# Altium schematic symbol library B5B-ZR(LF)(SN).SchLib: 1 symbol
Pins are listed as number, name and electrical type; pins without a type are passive.

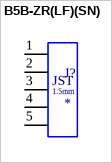
[diagram p0: symbol B5B-ZR(LF)(SN)]

## B5B-ZR(LF)(SN)
designator J?
Conn Shrouded Header HDR 5 POS 1.5mm Solder ST Thru-Hole Box; MF: JST; MP: B5B-ZR (LF)(SN); SnapEDA_Link: https://www.snapeda.com/parts/B5B-ZR%20(LF)(SN)/JST/view-part/?ref=snap; Package: None; Value: *; Check_prices: https://www.snapeda.com/parts/B5B-ZR%20(LF)(SN)/JST/view-part/?ref=eda
footprint JST_B5B-ZR(LF)(SN)
pins: 1, 2, 3, 4, 5
text: 1.5mm